# Altium footprint library Cap-0603.PcbLib: 9 footprints
Each footprint in its own frame and in the unit in brackets; x right, y up, seen from the top. Pads: shape width x height; smd on the part's side, far side on the other; paste and mask are expansions set on the pad; w line width, h text height; cw(c..) or ccw(c..) is an arc to the next point about the centre after c.
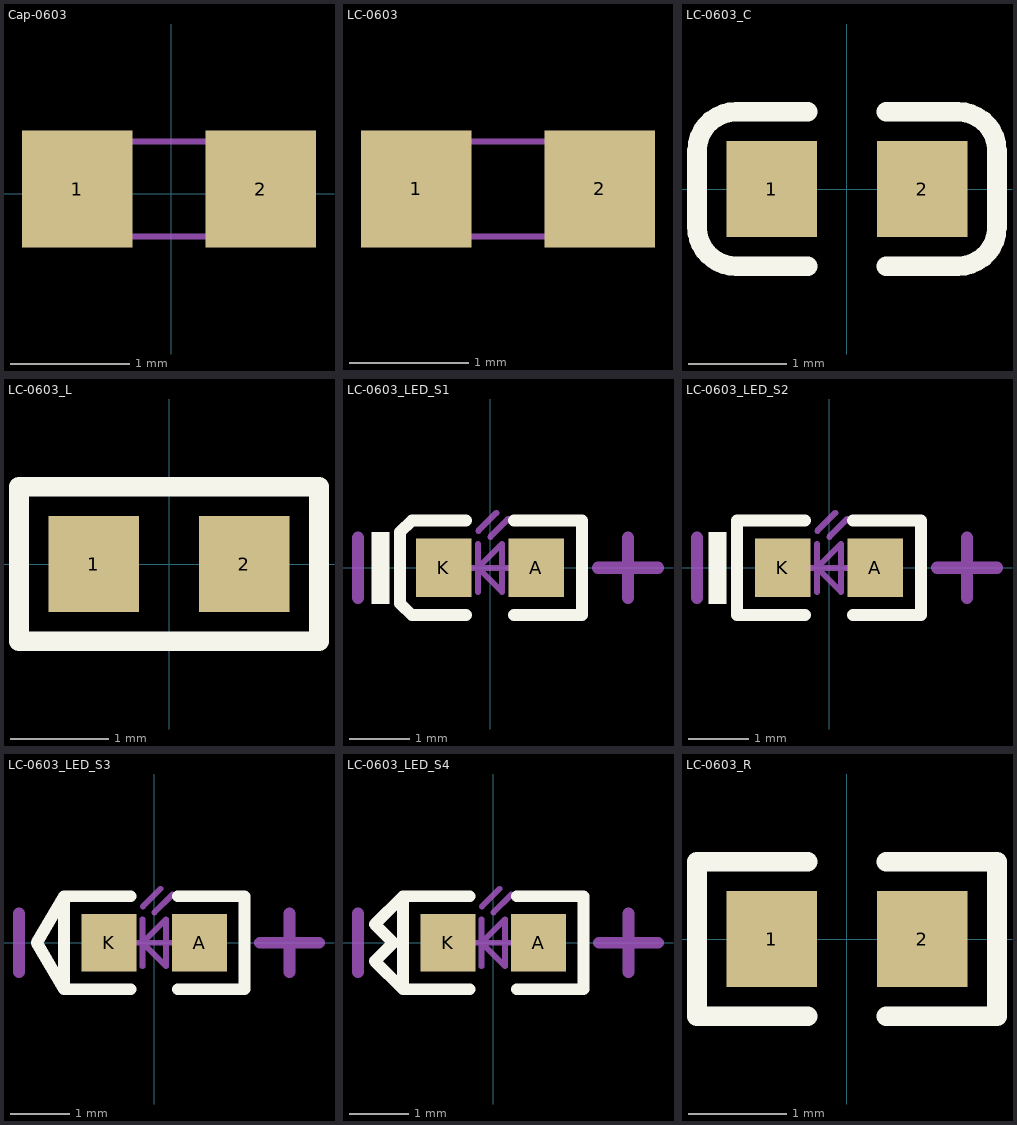
[diagram p0: the footprints below, top view; thin cyan lines are the x and y axes]

## Cap-0603 [mm]
pads (2):
  rect 0.93x0.98 smd: 1(-0.789,0.042) 2(0.751,0.042)
Mechanical 13:
  lines w0.05: -0.819,-0.358 0.781,-0.358 0.781,0.442 -0.819,0.442 -0.819,-0.358

## LC-0603 [mm]
pads (2):
  rect 0.93x0.98 smd: 1(-110.644,129.455) 2(-109.104,129.455)
Mechanical 13:
  lines w0.05: -110.674,129.055 -109.074,129.055 -109.074,129.855 -110.674,129.855 -110.674,129.055

## LC-0603_C [mm]
pads (2):
  rect 0.93x0.98 smd: 1(-0.77,0) 2(0.77,0)
Top Overlay:
  lines w0.2: -0.4,-0.79 -1.135,-0.79 cw(c-1.135,-0.39) -1.535,-0.39 -1.535,0.39 cw(c-1.135,0.39) -1.135,0.79 -0.4,0.79 ; 0.4,-0.79 1.135,-0.79 ccw(c1.135,-0.39) 1.535,-0.39 1.535,0.39 ccw(c1.135,0.39) 1.135,0.79 0.4,0.79
3D body: height 0.3, standoff 0, extent -0.8,-0.4 0.8,0.4

## LC-0603_L [mm]
pads (2):
  rect 0.93x0.98 smd: 1(-0.77,0) 2(0.77,0)
Top Overlay:
  lines w0.2: -1.535,-0.79 -1.535,0.79 1.535,0.79 1.535,-0.79 -1.535,-0.79
3D body: height 0.46, standoff -0.01, extent -0.825,-0.412 0.825,0.413

## LC-0603_LED_S1 [mm]
pads (2):
  rect 0.93x0.98 smd: A(0.77,0) K(-0.77,0)
Top Overlay:
  rectangle: -1.975,-0.6 -1.675,0.6
  lines w0.2: -0.4,-0.79 -1.3,-0.79 -1.5,-0.597 -1.5,0.597 -1.3,0.79 -0.4,0.79 ; 0.4,-0.79 1.535,-0.79 1.535,0.79 0.4,0.79
Mechanical 13:
  lines w0.1: -0.4,0 0.4,0 ; -0.2,-0.4 -0.2,0.4 ; -0.195,0.617 0.105,0.917 ; 0.005,0.517 0.305,0.817 ; -0.2,0 0.2,0.4 0.2,-0.4 -0.2,0
Mechanical 15:
  lines w0.203: -2.2,-0.5 -2.2,0.5 ; 1.8,0 2.8,0 ; 2.3,-0.5 2.3,0.5
3D body: height 0.6, standoff 0, extent -0.8,-0.4 0.8,0.4

## LC-0603_LED_S2 [mm]
pads (2):
  rect 0.93x0.98 smd: A(0.77,0) K(-0.77,0)
Top Overlay:
  rectangle: -2.01,-0.6 -1.71,0.6
  lines w0.2: -0.4,-0.79 -1.535,-0.79 -1.535,0.79 -0.4,0.79 ; 0.4,-0.79 1.535,-0.79 1.535,0.79 0.4,0.79
Mechanical 13:
  lines w0.1: -0.4,0 0.4,0 ; -0.2,-0.4 -0.2,0.4 ; -0.195,0.617 0.105,0.917 ; 0.005,0.517 0.305,0.817 ; -0.2,0 0.2,-0.4 0.2,0.4 -0.2,0
Mechanical 15:
  lines w0.203: -2.2,-0.5 -2.2,0.5 ; 1.8,0 2.8,0 ; 2.3,-0.5 2.3,0.5
3D body: height 0.6, standoff 0, extent -0.8,-0.4 0.8,0.4

## LC-0603_LED_S3 [mm]
pads (2):
  rect 0.93x0.98 smd: A(0.77,0) K(-0.77,0)
Top Overlay:
  lines w0.2: -0.4,-0.79 -1.535,-0.79 ; -0.4,0.79 -1.535,0.79 ; 0.4,-0.79 1.535,-0.79 1.535,0.79 0.4,0.79 ; -1.535,-0.79 -2,0 -1.535,0.79 ; -1.535,-0.79 -1.535,0.79
Mechanical 13:
  lines w0.1: -0.4,0 0.4,0 ; -0.2,-0.4 -0.2,0.4 ; -0.195,0.617 0.105,0.917 ; 0.005,0.517 0.305,0.817 ; -0.2,0 0.2,0.4 0.2,-0.4 -0.2,0
Mechanical 15:
  lines w0.203: -2.3,-0.5 -2.3,0.5 ; 1.8,0 2.8,0 ; 2.3,-0.5 2.3,0.5
3D body: height 0.6, standoff 0, extent -0.8,-0.4 0.8,0.4

## LC-0603_LED_S4 [mm]
pads (2):
  rect 0.93x0.98 smd: A(0.77,0) K(-0.77,0)
Top Overlay:
  lines w0.2: -0.4,-0.79 -1.535,-0.79 ; -0.4,0.79 -1.535,0.79 ; 0.4,-0.79 1.535,-0.79 1.535,0.79 0.4,0.79 ; -1.535,-0.79 -2.013,-0.312 -1.7,0 -2.013,0.313 -1.535,0.79 ; -1.535,-0.79 -1.535,0.79
Mechanical 13:
  lines w0.1: -0.4,0 0.4,0 ; -0.2,-0.4 -0.2,0.4 ; -0.195,0.617 0.105,0.917 ; 0.005,0.517 0.305,0.817 ; -0.2,0 0.2,-0.4 0.2,0.4 -0.2,0
Mechanical 15:
  lines w0.203: -2.3,-0.5 -2.3,0.5 ; 1.8,0 2.8,0 ; 2.3,-0.5 2.3,0.5
3D body: height 0.6, standoff 0, extent -0.8,-0.4 0.8,0.4

## LC-0603_R [mm]
pads (2):
  rect 0.93x0.98 smd: 1(-0.77,0) 2(0.77,0)
Top Overlay:
  lines w0.2: -0.4,-0.79 -1.535,-0.79 -1.535,0.79 -0.4,0.79 ; 0.4,-0.79 1.535,-0.79 1.535,0.79 0.4,0.79
3D body: height 0.56, standoff 0, extent -0.85,-0.4 0.85,0.4